# Altium footprint library AXIAL_0.5.PcbLib: 1 footprints
Each footprint in its own frame and in the unit in brackets; x right, y up, seen from the top. Pads: shape width x height; smd on the part's side, far side on the other; paste and mask are expansions set on the pad; w line width, h text height; cw(c..) or ccw(c..) is an arc to the next point about the centre after c.
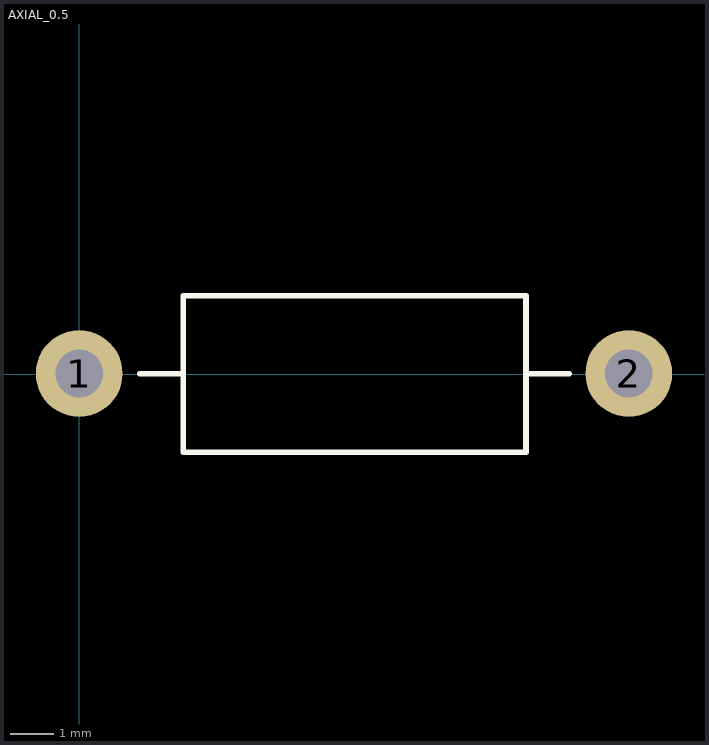
[diagram p0: the footprint, top view; thin cyan lines are the x and y axes]

## AXIAL_0.5 [mm]
pads (2):
  round 2 hole 1.1: 1(0,0.011) 2(12.67,0.011)
Top Overlay:
  lines w0.127: 1.4,0.011 2.4,0.011 ; 10.3,0.011 11.3,0.011 ; 2.4,-1.8 2.4,1.8 10.3,1.8 10.3,-1.8 2.4,-1.8
3D body "Resistor_0.5.SLDPRT": height 3.7, standoff -2.1, extent -0.334,-1.8 12.935,1.8